# EAGLE library part DPDT (library bt_electromech)
Dual Position, Dual Throw (DPDT) Switch
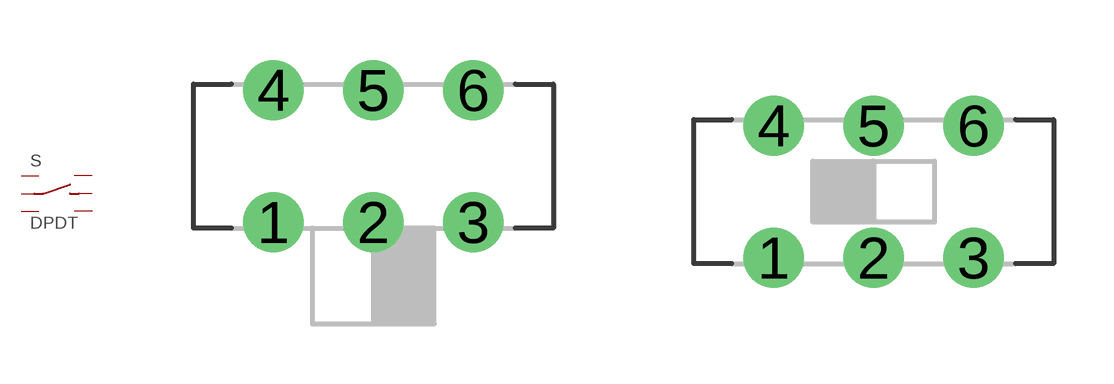
[diagram p3: symbol with the pads of DPDT_JS202011AQN; footprints DPDT_JS202011AQN, DPDT_JS202011CQN]

Designator prefix S

## DPDT_JS202011AQN  [DPDT_JS202011AQN]
1  L1  pas
2  LC  pas
3  L2  pas
4  R1  pas
5  RC  pas
6  R2  pas

## DPDT_JS202011CQN  [DPDT_JS202011CQN]
Pads as for DPDT_JS202011AQN

## DPDT_JS02011SCQN  [DPDT_JS202011SCQN]
Pads as for DPDT_JS202011AQN

## Footprint DPDT_JS202011AQN (pad centres in mm)
C&K Switch P/N JS202011AQN
drill 1: 1 -2.5,-1.65; 2 0,-1.65; 3 2.5,-1.65; 4 -2.5,1.65; 5 0,1.65; 6 2.5,1.65

## Footprint DPDT_JS202011CQN (pad centres in mm)
C&K JS202011CQN
drill 1: 1 -2.5,-1.65; 2 0,-1.651; 3 2.5,-1.65; 4 -2.5,1.65; 5 0,1.651; 6 2.5,1.65

## Footprint DPDT_JS202011SCQN (pad centres in mm)
smd 1.2 x 2.5: 1 -2.5,-2.75; 2 0,-2.75; 3 2.5,-2.75; 4 -2.5,2.75; 5 0,2.75; 6 2.5,2.75